# Altium footprint library PCB - LEADED - MISC - TI TO-263-3 KTT.PCBLIB: 1 footprints
Each footprint in its own frame and in the unit in brackets; x right, y up, seen from the top. Pads: shape width x height; smd on the part's side, far side on the other; paste and mask are expansions set on the pad; w line width, h text height; cw(c..) or ccw(c..) is an arc to the next point about the centre after c.
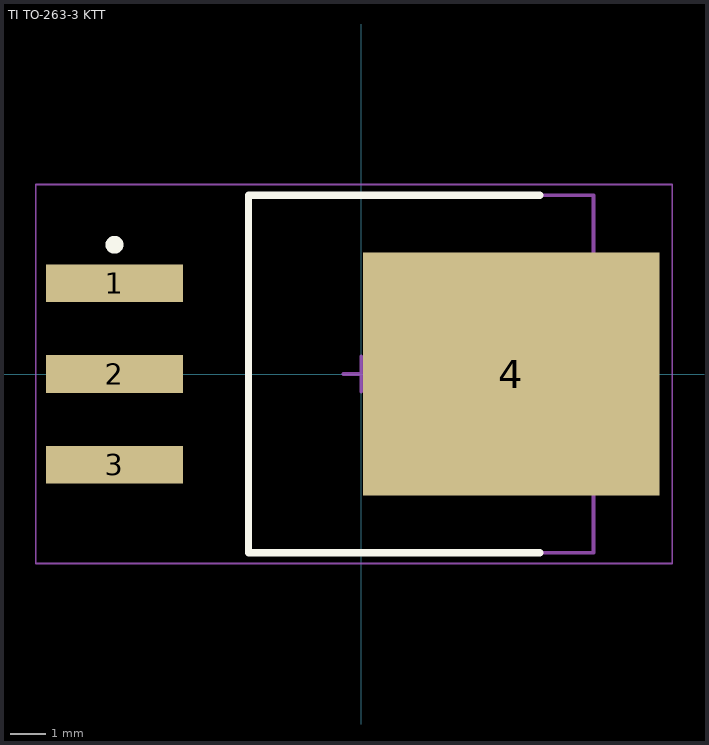
[diagram p0: the footprint, top view; thin cyan lines are the x and y axes]

## TI TO-263-3 KTT [mm] "D2-PAK, 4-Pads, Body 7.93x8.70mm (max), IPC Medium Density"
height 4.83
pads (4):
  rect 3.82x1.05 smd: 1(-6.9,2.54) 2(-6.9,0) 3(-6.9,-2.54)
  rect 8.3x6.8 smd: 4(4.2,0)
Top Overlay:
  circle w0.25: c-6.9,3.615 r0.125
  lines w0.2: 5,-5 -3.15,-5 -3.15,5 5,5
Mechanical 13:
  lines w0.1: -3.15,-5 6.5,-5 6.5,5 -3.15,5 -3.15,-5
Mechanical 15:
  lines w0.05: -9.1,-5.3 8.7,-5.3 8.7,5.3 -9.1,5.3 -9.1,-5.3
  lines w0.1: -0.5,0 0.5,0 ; 0,-0.5 0,0.5
3D body "TI TO-263-3 KTT.step": height 4.54, standoff 0, extent -7.822,-5.08 7.418,5.08